# Altium footprint library Common-Parts-Library.PcbLib: 530 footprints (part 11 of 34)
Each footprint in its own frame and in the unit in brackets; x right, y up, seen from the top. Pads: shape width x height; smd on the part's side, far side on the other; paste and mask are expansions set on the pad; w line width, h text height; cw(c..) or ccw(c..) is an arc to the next point about the centre after c.
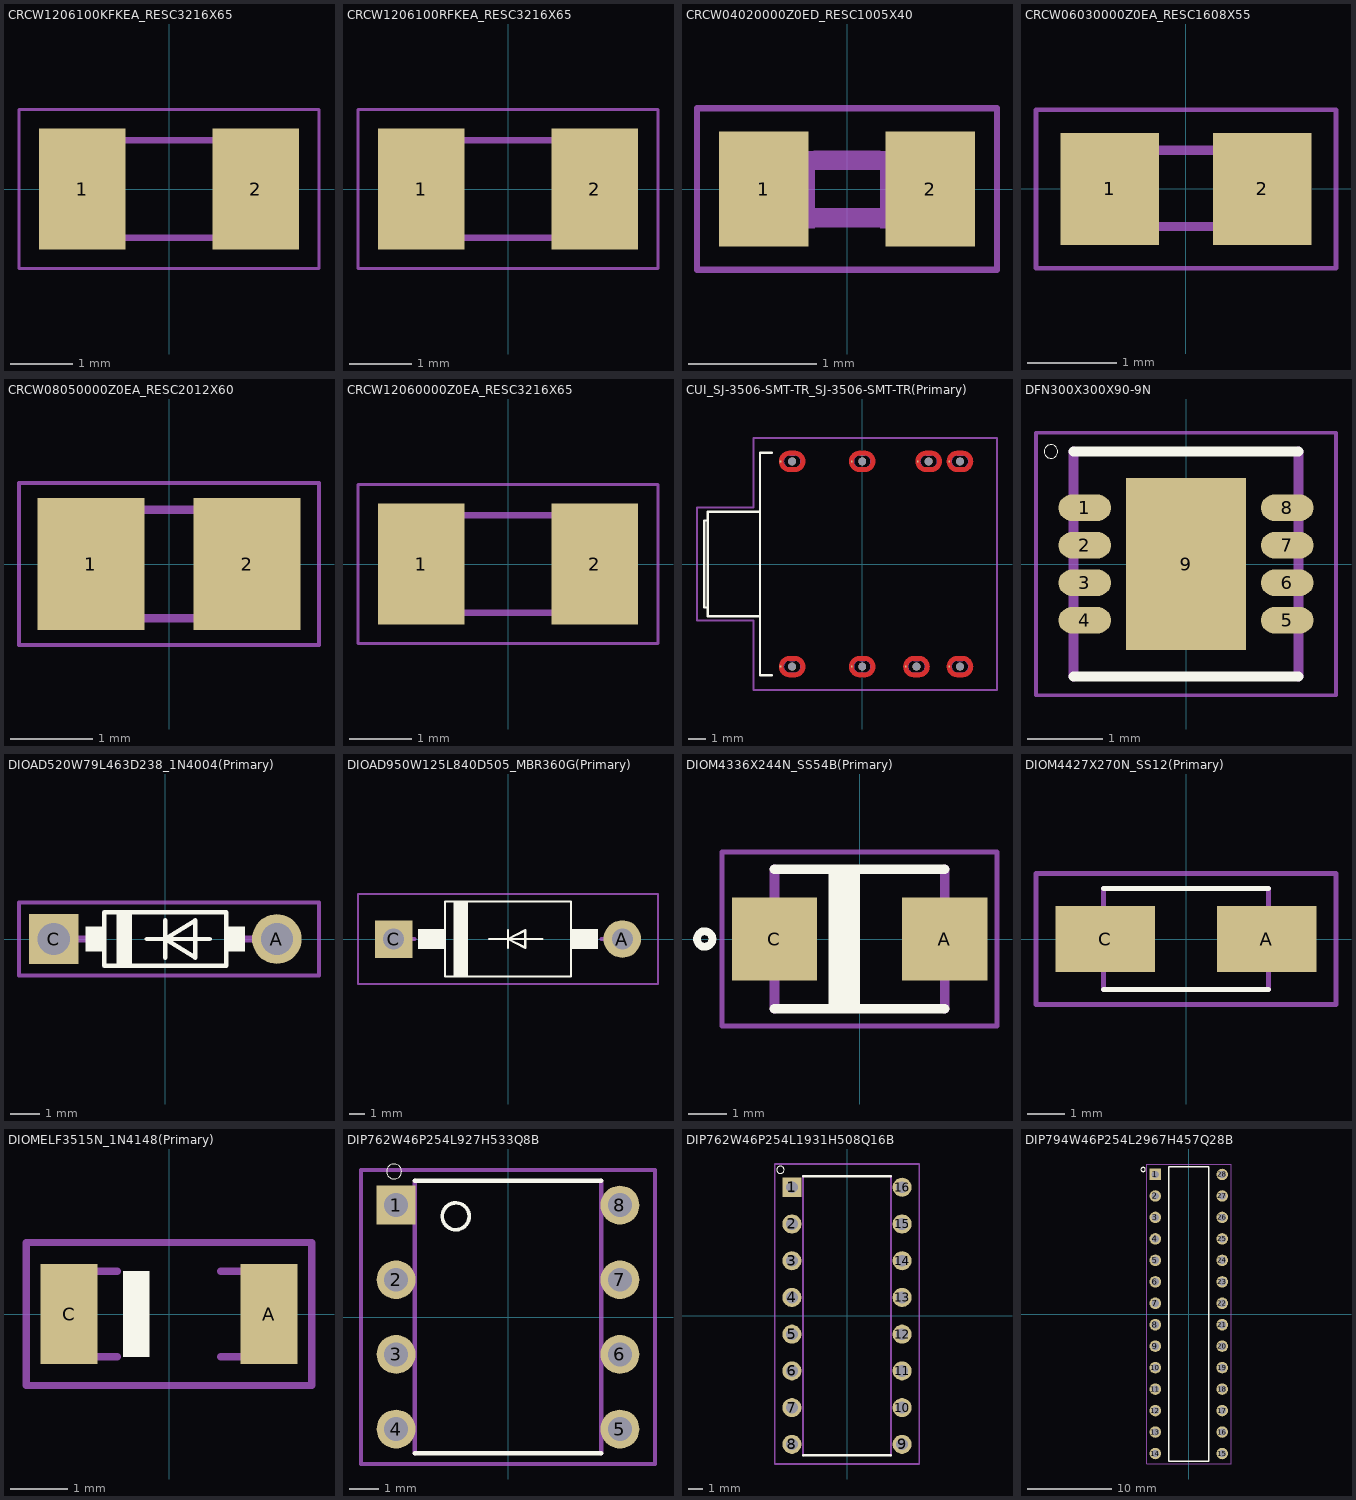
[diagram p10: the footprints below, top view; thin cyan lines are the x and y axes]

## CRCW1206100KFKEA_RESC3216X65 [mm]
pads (2):
  rect 1.4x1.95 smd: 1(-1.4,0) 2(1.4,0)
Mechanical 1:
  region: 0.955,0.851 1.702,0.851 1.702,-0.852 0.955,-0.852
  region: -1.704,0.849 -0.952,0.849 -0.952,-0.852 -1.704,-0.852
  lines w0.051: -2.423,-1.283 -2.423,1.283 2.423,1.283 2.423,-1.283 -2.423,-1.283
  lines w0.102: -0.965,-0.787 0.965,-0.787 ; -0.965,0.787 0.965,0.787

## CRCW1206100RFKEA_RESC3216X65 [mm]
pads (2):
  rect 1.4x1.95 smd: 1(-1.4,0) 2(1.4,0)
Mechanical 1:
  region: 0.953,0.851 1.702,0.851 1.702,-0.85 0.953,-0.85
  region: -1.704,0.849 -0.952,0.849 -0.952,-0.852 -1.704,-0.852
  lines w0.051: -2.423,-1.283 -2.423,1.283 2.423,1.283 2.423,-1.283 -2.423,-1.283
  lines w0.102: -0.965,-0.787 0.965,-0.787 ; -0.965,0.787 0.965,0.787

## CRCW04020000Z0ED_RESC1005X40 [mm]
pads (2):
  rect 0.7x0.9 smd: 1(-0.65,0) 2(0.65,0)
Mechanical 1:
  region: 0.26,0.295 0.559,0.295 0.559,-0.306 0.26,-0.306
  region: -0.555,0.295 -0.254,0.295 -0.254,-0.305 -0.555,-0.305
  lines w0.051: -1.173,-0.633 -1.173,0.633 1.173,0.633 1.173,-0.633 -1.173,-0.633
  lines w0.152: -0.245,-0.224 0.245,-0.224 ; -0.245,0.224 0.245,0.224

## CRCW06030000Z0EA_RESC1608X55 [mm]
pads (2):
  rect 1.1x1.25 smd: 1(-0.85,0) 2(0.85,0)
Mechanical 1:
  region: 0.33,0.48 0.83,0.48 0.83,-0.47 0.33,-0.47
  region: -0.84,0.48 -0.338,0.48 -0.338,-0.471 -0.84,-0.471
  lines w0.051: -1.673,-0.883 -1.673,0.883 1.673,0.883 1.673,-0.883 -1.673,-0.883
  lines w0.102: -0.356,-0.419 0.356,-0.419 ; -0.356,0.432 0.356,0.432

## CRCW08050000Z0EA_RESC2012X60 [mm]
pads (2):
  rect 1.3x1.6 smd: 1(-0.95,0) 2(0.95,0)
Mechanical 1:
  region: 0.357,0.726 1.106,0.726 1.106,-0.726 0.357,-0.726
  region: -1.095,0.726 -0.342,0.726 -0.342,-0.726 -1.095,-0.726
  lines w0.051: -1.823,-0.983 -1.823,0.983 1.823,0.983 1.823,-0.983 -1.823,-0.983
  lines w0.102: -0.381,0.66 0.381,0.66 ; -0.356,-0.66 0.381,-0.66

## CRCW12060000Z0EA_RESC3216X65 [mm]
pads (2):
  rect 1.4x1.95 smd: 1(-1.4,0) 2(1.4,0)
Mechanical 1:
  region: 0.954,0.851 1.702,0.851 1.702,-0.851 0.954,-0.851
  region: -1.705,0.849 -0.952,0.849 -0.952,-0.852 -1.705,-0.852
  lines w0.051: -2.423,-1.283 -2.423,1.283 2.423,1.283 2.423,-1.283 -2.423,-1.283
  lines w0.102: -0.965,-0.787 0.965,-0.787 ; -0.965,0.787 0.965,0.787

## CUI_SJ-3506-SMT-TR_SJ-3506-SMT-TR(Primary) [mm]
pads (16):
  rect 0.1x0.1 smd: 1(-4.7,5.9) 2(3.2,5.9) 3(5,-5.9) 4(2.5,-5.9) 5(-4.7,-5.9) 6(5,5.9) S1(-0.6,5.9) S2(-0.6,-5.9)
  round 0.45 hole 0.45 unplated: None(-4.03,-5.9) None(-4.03,5.9) None(0,-5.9) None(0,5.9) None(3.12,-5.9) None(3.82,5.9) None(5.62,-5.9) None(5.62,5.9)
Top Layer:
  drawing of 16 lines, arcs and shapes, not listed
Top Overlay:
  lines w0.127: -5.2,-6.4 -5.88,-6.4 -5.88,-3 ; -5.2,6.4 -5.88,6.4 -5.88,3 ; -8.88,-2.5 -9.08,-2.5 -9.08,2.5 -8.88,2.5 ; -8.88,-2.5 -8.88,-3 -5.88,-3 ; -8.88,-2.5 -8.88,2.5 ; -8.88,2.5 -8.88,3 -5.88,3 ; -5.88,-3 -5.88,3
Top Paste:
  drawing of 16 lines, arcs and shapes, not listed
Top Solder:
  region: 4.777,-5.2 6.47,-5.2 6.47,-6.609 4.777,-6.609
  region: 2.275,-5.2 3.97,-5.2 3.97,-6.615 2.275,-6.615
  region: -0.851,-5.2 0.85,-5.2 0.85,-6.611 -0.851,-6.611
  region: -4.887,-5.2 -3.18,-5.2 -3.18,-6.61 -4.887,-6.61
  region: 4.78,6.6 6.47,6.6 6.47,5.211 4.78,5.211
  region: 2.976,6.6 4.67,6.6 4.67,5.211 2.976,5.211
  region: -0.852,6.6 0.85,6.6 0.85,5.212 -0.852,5.212
  region: -4.888,6.6 -3.18,6.6 -3.18,5.209 -4.888,5.209
Mechanical 1:
  lines w0.01: -4.53,-5.9 ccw(c-4.18,-5.9) -4.18,-6.25 -3.88,-6.25 ccw(c-3.88,-5.9) -3.53,-5.9 ccw(c-3.88,-5.9) -3.88,-5.55 -4.18,-5.55 ccw(c-4.18,-5.9) -4.53,-5.9 ; -4.53,5.9 ccw(c-4.18,5.9) -4.18,5.55 -3.88,5.55 ccw(c-3.88,5.9) -3.53,5.9 ccw(c-3.88,5.9) -3.88,6.25 -4.18,6.25 ccw(c-4.18,5.9) -4.53,5.9 ; -0.5,-5.9 ccw(c-0.15,-5.9) -0.15,-6.25 0.15,-6.25 ccw(c0.15,-5.9) 0.5,-5.9 ccw(c0.15,-5.9) 0.15,-5.55 -0.15,-5.55 ccw(c-0.15,-5.9) -0.5,-5.9 ; -0.5,5.9 ccw(c-0.15,5.9) -0.15,5.55 0.15,5.55 ccw(c0.15,5.9) 0.5,5.9 ccw(c0.15,5.9) 0.15,6.25 -0.15,6.25 ccw(c-0.15,5.9) -0.5,5.9 ; 2.62,-5.9 ccw(c2.97,-5.9) 2.97,-6.25 3.27,-6.25 ccw(c3.27,-5.9) 3.62,-5.9 ccw(c3.27,-5.9) 3.27,-5.55 2.97,-5.55 ccw(c2.97,-5.9) 2.62,-5.9 ; 3.32,5.9 ccw(c3.67,5.9) 3.67,5.55 3.97,5.55 ccw(c3.97,5.9) 4.32,5.9 ccw(c3.97,5.9) 3.97,6.25 3.67,6.25 ccw(c3.67,5.9) 3.32,5.9 ; 5.12,-5.9 ccw(c5.47,-5.9) 5.47,-6.25 5.77,-6.25 ccw(c5.77,-5.9) 6.12,-5.9 ccw(c5.77,-5.9) 5.77,-5.55 5.47,-5.55 ccw(c5.47,-5.9) 5.12,-5.9 ; 5.12,5.9 ccw(c5.47,5.9) 5.47,5.55 5.77,5.55 ccw(c5.77,5.9) 6.12,5.9 ccw(c5.77,5.9) 5.77,6.25 5.47,6.25 ccw(c5.47,5.9) 5.12,5.9
  lines w0.127: -9.5,-3.25 -6.25,-3.25 -6.25,-7.25 7.75,-7.25 7.75,7.25 -6.25,7.25 -6.25,3.25 -9.5,3.25 -9.5,-3.25

## DFN300X300X90-9N [mm]
pads (9):
  oval 0.7x0.35 smd: 1(-1.35,0.75) 2(-1.35,0.25) 3(-1.35,-0.25) 4(-1.35,-0.75) 5(1.35,-0.75) 6(1.35,-0.25) 7(1.35,0.25) 8(1.35,0.75)
  rect 1.6x2.3 smd: 9(0,0)
Top Overlay:
  circle w0: c-1.8,1.5 r0.09
  lines w0.127: -1.5,-1.5 1.5,-1.5 ; -1.5,1.5 1.5,1.5
Top Paste:
  region: -0.501,0.75 0.5,0.75 0.5,-0.751 -0.501,-0.751
Top Solder:
  region: 0.951,-0.525 1.75,-0.525 1.75,-0.976 0.951,-0.976
  region: 0.952,-0.025 1.75,-0.025 1.75,-0.476 0.952,-0.476
  region: 0.951,0.975 1.75,0.975 1.75,0.526 0.951,0.526
  region: 0.951,0.475 1.75,0.475 1.75,0.025 0.951,0.025
  region: -1.753,-0.525 -0.95,-0.525 -0.95,-0.977 -1.753,-0.977
  region: -1.753,-0.025 -0.95,-0.025 -0.95,-0.476 -1.753,-0.476
  region: -1.753,0.975 -0.95,0.975 -0.95,0.526 -1.753,0.526
  region: -1.753,0.475 -0.95,0.475 -0.95,0.025 -1.753,0.025
Mechanical 1:
  lines w0.05: -2,-1.75 2,-1.75 2,1.75 -2,1.75 -2,-1.75
  lines w0.127: -1.5,-1.5 -1.5,1.5 ; 1.5,-1.5 1.5,1.5

## DIOAD520W79L463D238_1N4004(Primary) [mm]
pads (2):
  round 1.7 hole 1.1: A(3.81,0)
  rect 1.7x1.7 hole 1.1: C(-3.81,0)
Top Overlay:
  region: -2.718,0.425 -2.082,0.425 -2.082,-0.425 -2.718,-0.425
  region: 2.086,0.425 2.717,0.425 2.717,-0.426 2.086,-0.426
  region: -1.654,0.92 -1.143,0.92 -1.143,-0.952 -1.654,-0.952
  lines w0.152: -0.635,0 0,0 ; 0,-0.635 0,0 ; 0,0.635 0,0 ; 1.524,0 0,0 ; 0,0 1.016,0.635 1.016,-0.635 0,0 ; -2.082,-0.92 -2.082,0.92 2.082,0.92 2.082,-0.92 -2.082,-0.92
Mechanical 1:
  lines w0.127: -5,-1.25 -5,1.25 5.25,1.25 5.25,-1.25 -5,-1.25
  lines w0.254: -3.81,0 -2.519,0 ; 2.494,0 3.81,0

## DIOAD950W125L840D505_MBR360G(Primary) [mm]
pads (2):
  round 2.5 hole 1.4: A(7.62,0)
  rect 2.5x2.5 hole 1.4: C(-7.62,0)
Top Overlay:
  region: -3.611,2.5 -2.7,2.5 -2.7,-2.508 -3.611,-2.508
  region: 4.204,0.64 5.08,0.64 5.08,-0.641 4.204,-0.641
  region: -5.095,0.64 -4.27,0.64 -4.27,-0.642 -5.095,-0.642
  region: 5.086,0.64 5.969,0.64 5.969,-0.641 5.086,-0.641
  region: -5.98,0.64 -5.08,0.64 -5.08,-0.641 -5.98,-0.641
  lines w0.152: -1.27,0 0,0 ; 0,-0.584 0,0 ; 0,0.584 0,0 ; 2.286,0 0,0 ; 0,0 1.143,-0.584 1.143,0.584 0,0 ; -4.2,-2.5 4.2,-2.5 4.2,2.5 -4.2,2.5 -4.2,-2.5
Mechanical 1:
  lines w0.127: -10,-3 -10,3 10,3 10,-3 -10,-3
  lines w0.254: -7.62,0 -6.223,0 ; 6.223,0 7.62,0

## DIOM4336X244N_SS54B(Primary) [mm]
pads (2):
  rect 2.2x2.15 smd: A(2.2,0) C(-2.2,0)
Top Overlay:
  circle w0.2: c-4,0 r0.2
  region: -0.801,1.8 0,1.8 0,-1.803 -0.801,-1.803
  lines w0.254: -2.2,-1.8 2.2,-1.8 ; -2.2,1.8 2.2,1.8
Mechanical 1:
  lines w0.127: -3.55,-2.25 -3.55,2.25 3.55,2.25 3.55,-2.25 -3.55,-2.25
  lines w0.254: -2.2,-1.8 -2.2,1.8 ; 2.2,-1.8 2.2,1.8

## DIOM4427X270N_SS12(Primary) [mm]
pads (2):
  rect 2.65x1.75 smd: A(2.15,0) C(-2.15,0)
Top Overlay:
  lines w0.127: -2.2,-1.35 2.2,-1.35 ; -2.2,1.35 2.2,1.35
Mechanical 1:
  lines w0.127: -2.2,-1.35 -2.2,1.35 ; 2.2,-1.35 2.2,1.35 ; -4,-1.75 -4,1.75 4,1.75 4,-1.75 -4,-1.75

## DIOMELF3515N_1N4148(Primary) [mm]
pads (2):
  rect 1x1.75 smd: A(1.75,0) C(-1.75,0)
Top Overlay:
  region: -0.802,0.75 -0.35,0.75 -0.35,-0.752 -0.802,-0.752
Mechanical 1:
  lines w0.127: -0.9,-0.75 -1.2,-0.75 cw(c-1.2,-0.5) -1.45,-0.5 ; -0.9,0.75 -1.2,0.75 ccw(c-1.2,0.5) -1.45,0.5 ; 0.9,-0.75 1.2,-0.75 ccw(c1.2,-0.5) 1.45,-0.5 ; 0.9,0.75 1.2,0.75 cw(c1.2,0.5) 1.45,0.5 ; -1.45,-0.5 -1.45,-0.7 cw(c-1.5,-0.7) -1.5,-0.75 -1.7,-0.75 cw(c-1.7,-0.7) -1.75,-0.7 -1.75,0.7 cw(c-1.7,0.7) -1.7,0.75 -1.5,0.75 cw(c-1.5,0.7) -1.45,0.7 -1.45,0.5 ; -1.45,-0.5 -1.45,0.5 ; 1.45,-0.5 1.45,-0.7 ccw(c1.5,-0.7) 1.5,-0.75 1.7,-0.75 ccw(c1.7,-0.7) 1.75,-0.7 1.75,0.7 ccw(c1.7,0.7) 1.7,0.75 1.5,0.75 ccw(c1.5,0.7) 1.45,0.7 1.45,0.5 ; 1.45,-0.5 1.45,0.5 ; -2.5,-1.25 2.5,-1.25 2.5,1.25 -2.5,1.25 -2.5,-1.25

## DIP762W46P254L927H533Q8B [mil]
pads (8):
  rect 52x52 hole 32: 1(-150,150)
  round 52 hole 32: 2(-150,50) 3(-150,-50) 4(-150,-150) 5(150,-150) 6(150,-50) 7(150,50) 8(150,150)
Top Overlay:
  circle w5: c-70,135 r18.03
  circle w0: c-152.6,195.04 r10
  lines w6: -125,-182.48 125,-182.48 ; -125,182.48 125,182.48
Mechanical 1:
  lines w5: -196.85,-196.85 -196.85,196.85 196.85,196.85 196.85,-196.85 -196.85,-196.85
  lines w6: -125,-182.48 -125,182.48 ; 125,-182.48 125,182.48

## DIP762W46P254L1931H508Q16B [mil]
pads (16):
  rect 52x52 hole 32: 1(-150,350)
  round 52 hole 32: 2(-150,250) 3(-150,150) 4(-150,50) 5(-150,-50) 6(-150,-150) 7(-150,-250) 8(-150,-350) 9(150,-350) 10(150,-250) 11(150,-150) 12(150,-50) 13(150,50) 14(150,150) 15(150,250) 16(150,350)
Top Overlay:
  circle w0: c-181.1,397.64 r10
  lines w6: -120.08,-379.92 120.08,-379.92 ; -120.08,379.92 120.08,379.92
Mechanical 1:
  lines w5: -196.85,-403.54 -196.85,413.39 196.85,413.39 196.85,-403.54 -196.85,-403.54
  lines w6: -120.08,-379.92 -120.08,379.92 ; 120.08,-379.92 120.08,379.92

## DIP794W46P254L2967H457Q28B [mm]
pads (28):
  rect 1.358x1.358 hole 0.85: 1(-3.96,16.51)
  round 1.358 hole 0.85: 2(-3.96,13.97) 3(-3.96,11.43) 4(-3.96,8.89) 5(-3.96,6.35) 6(-3.96,3.81) 7(-3.96,1.27) 8(-3.96,-1.27) 9(-3.96,-3.81) 10(-3.96,-6.35) 11(-3.96,-8.89) 12(-3.96,-11.43) 13(-3.96,-13.97) 14(-3.96,-16.51) 15(3.96,-16.51) 16(3.96,-13.97) 17(3.96,-11.43) 18(3.96,-8.89) 19(3.96,-6.35) 20(3.96,-3.81) 21(3.96,-1.27) 22(3.96,1.27) 23(3.96,3.81) 24(3.96,6.35) 25(3.96,8.89) 26(3.96,11.43) 27(3.96,13.97) 28(3.96,16.51)
Top Overlay:
  circle w0: c-5.4,17.1 r0.254
  lines w0.152: -2.38,-17.4 2.38,-17.4 2.38,17.4 -2.38,17.4 -2.38,-17.4
Mechanical 1:
  lines w0.05: -5,-17.75 -5,17.75 5,17.75 5,-17.75 -5,-17.75